# Altium schematic symbol library AOZ1360.SCHLIB: 1 symbol
Pins are listed as number, name and electrical type; pins without a type are passive.

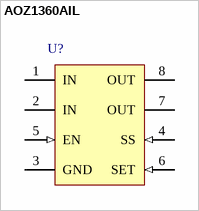
[diagram p0: symbol AOZ1360AIL]

## AOZ1360AIL
designator U?
pins: 1 IN (power) "P-channel MOSFET source.", 2 IN (power) "cf. IN1", 3 GND (power) "...", 4 SS (in) "Soft-Start Pin. Connect a capacitor from SS to GND to set the soft-start time. Connect SS to IN to set to the default soft-start time of 100us.", 5 EN (in) "Enable Input.", 6 SET (in) "Current Limit Set Pin. Connect a resistor from SET to GND to set the switch current limit.", 7 OUT (power) "P-channel MOSFET Drain. Connect a capacitor with 0.1 μF or above from OUT to GND.", 8 OUT (power) "cf. OUT1"